# Altium schematic symbol library Custom.SchLib: 69 symbols
Pins are listed as number, name and electrical type; pins without a type are passive.

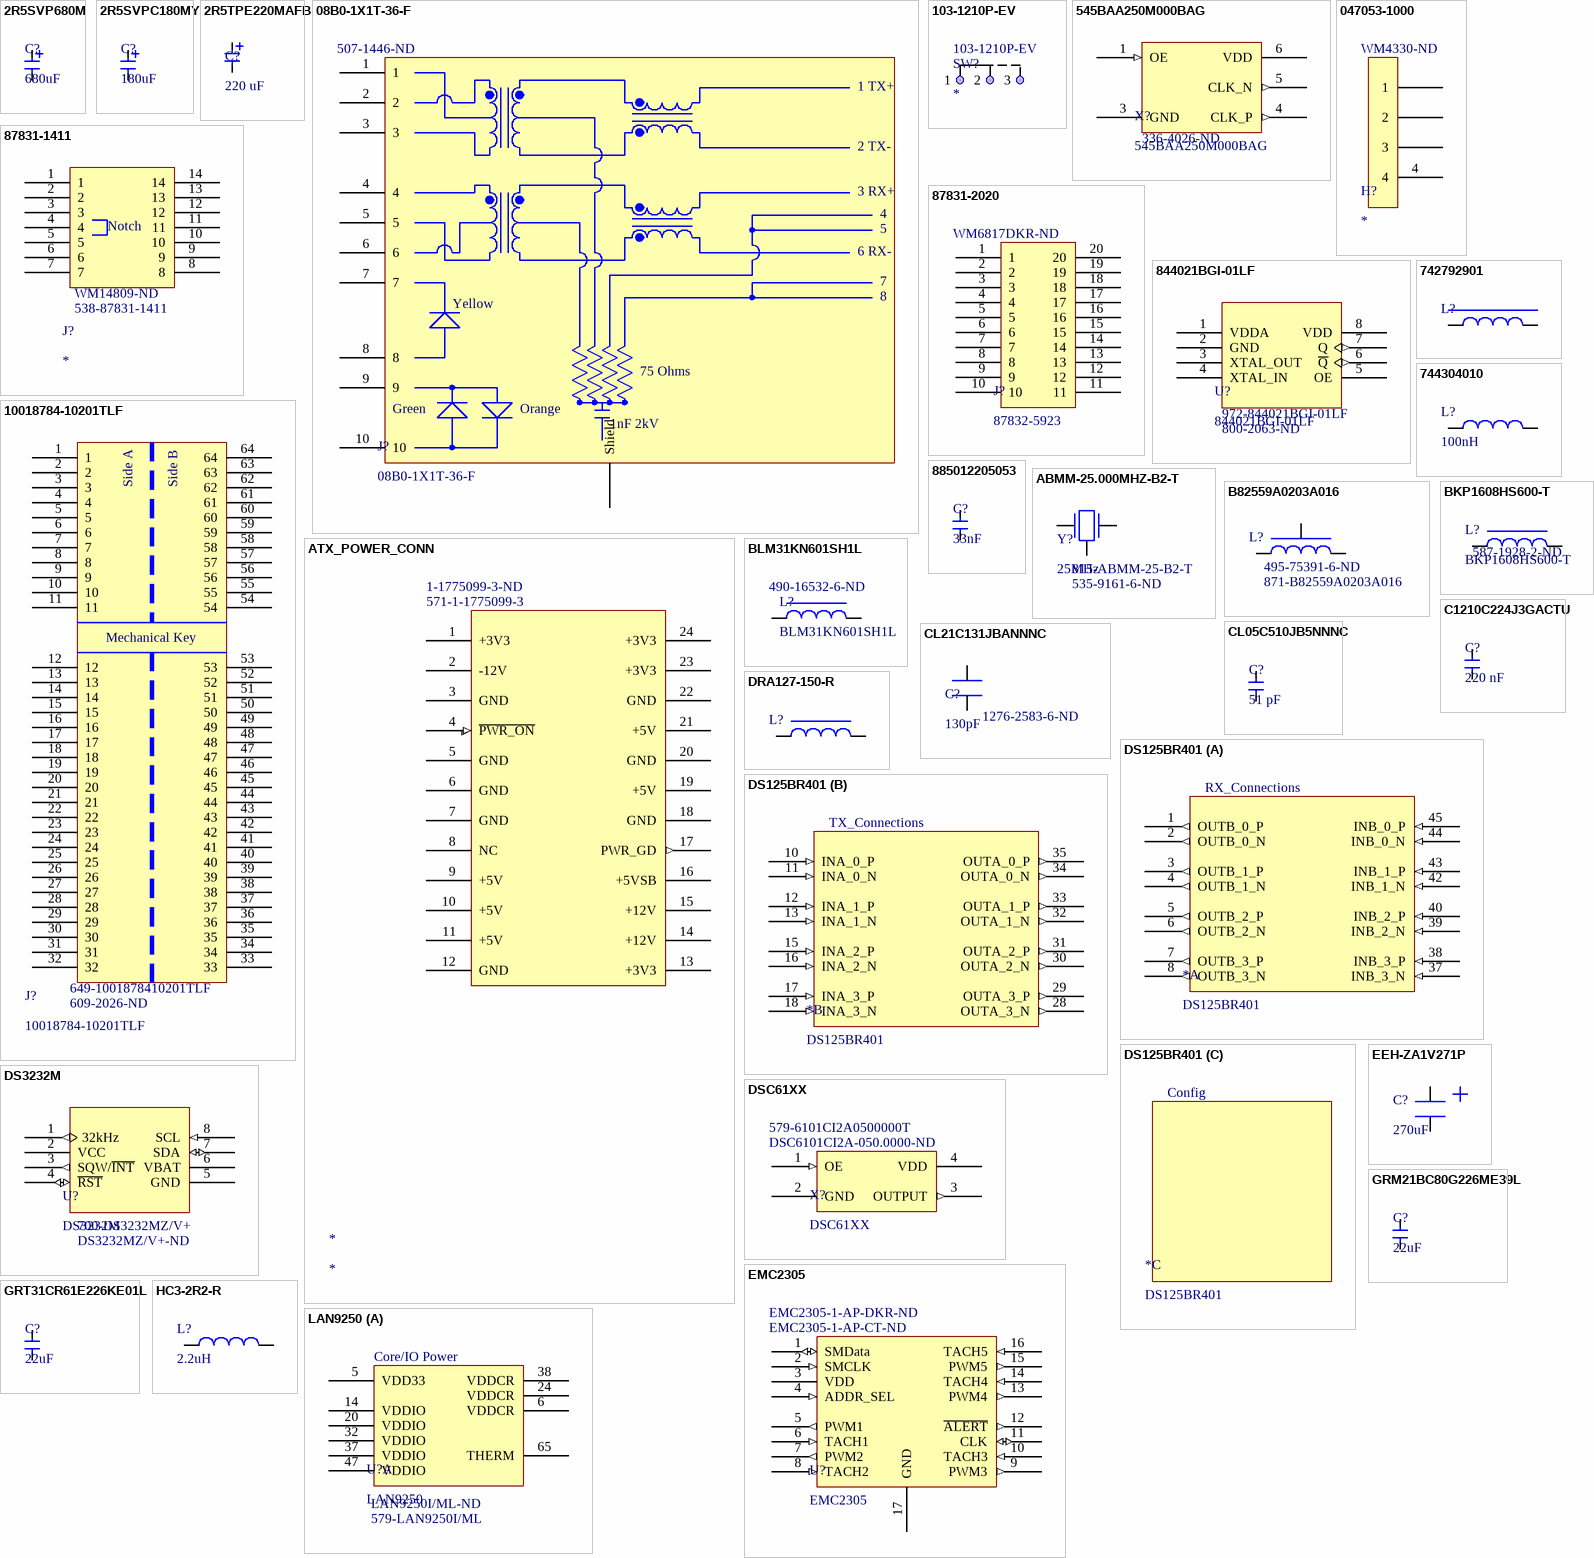
[diagram p0: symbols 2R5SVP680M to LAN9250]

## 2R5SVP680M
designator C?, comment 680uF
680uF capacitor alumanum polymer; Voltage Rating: 2.5V; ESR: 24 mOhms @ 100kHz; ESL: 251.7 pH; Frequency Correction factor for ripple current | 120 <= f < 1khz: 0.05; Frequency Correction factor for ripple current | 1khz<= f < 10khz: 0.3; Frequency Correction factor for ripple current | 10khz <= f < 100khz: 0.7; Frequency Correction factor for ripple current | 100khz<= f < 500khz: 1; Value: 680uF; Supplier 1: Digi-Key; Supplier 2: Mouser; Supplier Part Number 1: P16521DKR-ND; Supplier Part Number 2: 667-2R5SVP680M
footprint Panasonic_E12 (Panasonic E12 Aluminum Polimer Capacitor)
pins: 1, 2

## 2R5SVPC180MY
designator C?, comment 180uF
180uF capacitor alumanum polymer; Voltage Rating: 35V; ESR: 24 mOhms @ 100kHz; ESL: 251.7 pH; Frequency Correction factor for ripple current | 120 <= f < 1khz: 0.05; Frequency Correction factor for ripple current | 1khz<= f < 10khz: 0.3; Frequency Correction factor for ripple current | 10khz <= f < 100khz: 0.7; Frequency Correction factor for ripple current | 100khz<= f < 500khz: 1; Value: 180uF; Supplier 1: Mouser; Supplier 2: Digi-Key; Supplier Part Number 1: 667-2R5SVPC180MY; Supplier Part Number 2: P16525DKR-ND
footprint Panasonic B6 Capacitor (Panasonic B6 Aluminum Polymer Capacitor case)
pins: 1, 2

## 2R5TPE220MAFB
designator C?, comment 220 uF
220uF Tantalum Polymer Capacitor; Voltage Rating: 2.5BVDC; Tolerance: 20%; ESR: 15mOhms; Temperature Range: -55C to 105C; Supplier 1: Mouser; Supplier 2: Digi-Key; Supplier Part Number 1: 667-2R5TPE220MAFB; Supplier Part Number 2: P16200DKR-ND; Value: 220 uF
footprint Panasonic B2 Capacitor (Panasonic B2 Tantalum Polymer Capacitor)
pins: 1, 2

## 08B0-1X1T-36-F
designator J?  Supplier Part Number 1: 507-1446-ND
100Base-T Ethernet Jack w/ magnetics; Supplier 1: Digi-Key
footprint 08B0-1X1T-36-F (100Base-T RJ45 ethernet jack)
pins: 1, 2, 3, 4, 5, 6, 7, 8, 9, 10, 11 Shield, 12 hidden to 12, 13 hidden to 13, 14 hidden to 14
text: 1 TX+; 2 TX-; 3 RX+; 6 RX-; Yellow; 75 Ohms; Green; Orange; 1nF 2kV

## 103-1210P-EV
designator SW?  Supplier Part Number 1: 103-1210P-EV
Supplier 1: Mouser
footprint MountainSwitch SPST (SPST Slide Switch)
pins: 1, 2, 3

## 545BAA250M000BAG
designator X?  Supplier Part Number 1: 336-4026-ND
250 MHz Oscillator LVDS output 1.8V, 2.5V, 3.3V; Frequency: 250MHz; Supplier 1: Digi-Key
footprint Oscillator_3.2mm_5mm (Silicon Labs Oscillator)
pins: 1 OE (in) "Active High Enable", 2 hidden to 2, 3 GND (power), 4 CLK_P (out) "Differental Clock Output", 5 CLK_N (out) "Differential Clock Output", 6 VDD (power)

## 047053-1000
designator H?  Supplier Part Number 1: WM4330-ND
Supplier 1: Digi-Key
footprint 047053-1000 (4 pin header for PC fans)
pins: 1, 2, 3, 4

## 87831-1411
designator J?  Supplier Part Number 1: 538-87831-1411  Supplier Part Number 2: WM14809-ND
2x7 pin, (14 pins total) 2mm shrouded header; Manufacturer: Molex; Manufacturer Part Number: 87831-1411; Description: Headers & Wire Housings MGRID SHRDHDR VT W/TAIL.76AULF 14CKT; Number of Positions: 14; Current Rating: 2A; Voltage Rating: 125V; Mating Post Length: 3.6mm; Glow Wire Compliant: Non-compliant; Gender: Male; Connector Type: Male Pin; Supplier 1: Mouser; Stock 1: 3781; Pricing 1: 1=1.61, 10=1.44, 50=1.44, 100=1.25, 1000=0.892, 10000=0.773 (USD); Mount: Through Hole; Number of Pins: 14; Contact Plating: Nickel,Gold; Contact Material: Bronze; Housing Material: Nylon; Min Operating Temperature: -55°C; Max Operating Temperature: 105°C; Number of Rows: 2; Package Quantity: 3200; Packaging: Rail/Tube; Termination: Through Hole; Orientation: Vertical; Contact Gender: Male; Number of Circuits: 14; Pitch: 2mm; Row Spacing: 2mm; Termination Post Length: 3.5mm; Flammability Rating: UL94 V-0; ComponentLink1URL: http://www.mouser.com/ds/2/276/0878311411_PCB_HEADERS-263023.pdf; ComponentLink1Description: http://www.mouser.com/ds/2/276/0878311411_PCB_HEADERS-263023.pdf; Supplier 2: Digi-Key; Stock 2: 3228; Pricing 2: 1=1.6, 10=1.456, 100=1.248, 500=1.04002, 1000=0.89145, 5000=0.79042, 10000=0.77259 (USD); Colour: Black; Housing Colour: Black; Contact Mating Length: 0.141inch; ComponentLink2URL: https://datasheet.ciiva.com/6851/0878311411-pcb-headers-6851036.pdf; ComponentLink2Description: https://datasheet.ciiva.com/6851/0878311411-pcb-headers-6851036.pdf; ComponentLink3URL: https://datasheet.ciiva.com/30040/878311411-sd-30040476.pdf; ComponentLink3Description: https://datasheet.ciiva.com/30040/878311411-sd-30040476.pdf
footprint 2x7_2mm_header (2 by 7, 2mm pitch 14 pin header)
pins: 1, 2, 3, 4, 5, 6, 7, 8, 9, 10, 11, 12, 13, 14
text: Notch

## 87831-2020
designator J?, comment 87832-5923  Supplier Part Number 1: WM6817DKR-ND
10x2 2mm header (useful for USB3 header on motherboards); Supplier 1: Digi-Key
footprint 0878325923 (SMD 10x2 2mm pitch header)
pins: 1, 2, 3, 4, 5, 6, 7, 8, 9, 10, 11, 12, 13, 14, 15, 16, 17, 18, 19, 20

## 844021BGI-01LF
designator U?  Supplier Part Number 1: 972-844021BGI-01LF  Supplier Part Number 2: 800-2063-ND
LVDS Clock Buffer; Supplier 1: Mouser; Supplier 2: Digi-Key
footprint IDT TSSOP-8 (TSOP, 8-Leads, Body 3.00x4.40mm, Pitch 0.65mm, IPC Medium Density)
ibis ICS844021G-01 (Model Description)
pins: 1 VDDA, 2 GND (power), 3 XTAL_OUT, 4 XTAL_IN, 5 OE, 6 ~{Q} (out), 7 Q (out), 8 VDD (power)

## 10018784-10201TLF
designator J?  Supplier Part Number 1: 609-2026-ND  Supplier Part Number 2: 649-1001878410201TLF
PCIe 4x connector; Resistance: 30mΩ max (Initial) with 10mΩ max change; Voltage Rating: 300 VAC; Current Rating: 1.1A for 8 Specified Power Contacts and 8 nearest Ground Contacts; Insulation Resistance: 1 GOhms; Durability: 50 Mating Cycles; Supplier 1: Digi-Key; Supplier 2: Mouser
footprint 10018784-10201TLF (PCIe 4x)
pins: 1, 2, 3, 4, 5, 6, 7, 8, 9, 10, 11, 12, 13, 14, 15, 16, 17, 18, 19, 20, 21, 22, 23, 24, 25, 26, 27, 28, 29, 30, 31, 32, 33, 34, 35, 36, 37, 38, 39, 40, 41, 42, 43, 44, 45, 46, 47, 48, 49, 50, 51, 52, 53, 54, 55, 56, 57, 58, 59, 60, 61, 62, 63, 64
text: Side A; Side B; Mechanical Key

## 742792901
designator L?  (value not drawn)
Ferrite Bead; ESR: 9 mOhms; Inductance: 1.87802833µH; Impedance @ 100MHz: 1.18k Ohms; Supplier 1: Digi-Key; Supplier Part Number 1: 732-3645-6-ND; Supplier 2: Mouser; Supplier Part Number 2: 710-742792901
footprint FB1212 mm_WurthElekrionik (High Power Ferrite Bead, 2-Leads, Body 12.00x12.00mm, IPC Medium Density)
simulation model FB742792901 (SPICE Model for 742792901 Ferrite Bead)
pins: 1, 2

## 744304010
designator L?, comment 100nH
100nH power inductor I_RMS=24A, saturation @52A; DC Resistance: 170uOhms; Tolerance: 20%; Self Resonant Frequency: 105Mhz; Supplier 1: Mouser; Supplier Part Number 1: 710-744304010
footprint 744304010 (Molded Inductor, 2-Leads, Body 10.00x11.80mm, IPC Medium Density)
pins: 1, 2

## 885012205053
designator C?, comment 33nF
33nF capacitor 0402 package (in); Voltage Rating: 25V; ESR: 0.03148 Ohms; ESL: 251.7 pH; Supplier 1: Digi-Key; Supplier Part Number 1: 732-7548-6-ND; Value: 33nF
footprint C0402IN_C1005MM
simulation model WCAP_CSGP_885012205053
pins: 1, 2

## ABMM-25.000MHZ-B2-T
designator Y?, comment 25MHz  Supplier Part Number 1: 535-9161-6-ND  Supplier Part Number 2: 815-ABMM-25-B2-T
25MHz crystal; Supplier 1: Digi-Key; Supplier 2: Mouser
footprint ABMM Crystal 7x5x1.3mm
pins: 1, 2, 4 3 (power), 3 2

## ATX_POWER_CONN
designator *  Supplier Part Number 1: 571-1-1775099-3  Supplier Part Number 2: 1-1775099-3-ND
Supplier 1: Mouser; Supplier 2: Digi-Key
footprint TE_1-1775099-3
pins: 1 +3V3 (power), 2 -12V (power), 3 GND (power), 4 ~{PWR_ON} (in) "Turn power supply outputs on", 5 GND (power), 6 GND (power), 7 GND (power), 8 NC "No Connect", 9 +5V (power), 10 +5V (power), 11 +5V (power), 12 GND (power), 13 +3V3 (power), 14 +12V (power), 15 +12V (power), 16 +5VSB (power) "Always on; used for regulation and turning on everything else", 17 PWR_GD (out) "5V TTL output to determine if power supply voltages are ok", 18 GND (power), 19 +5V (power), 20 GND (power), 21 +5V (power), 22 GND (power), 23 +3V3 (power), 24 +3V3 (power)

## B82559A0203A016
designator L?, comment Supplier Part Number 1: 871-B82559A0203A016  Supplier Part Number 2: 495-75391-6-ND  (hidden comment: 20uH)
ESR: 13.25mOhms; Value: 20uH; Supplier 1: Mouser; Supplier 2: Digi-Key
footprint B82559_A016 (Shielded inductor)
pins: 1 21, 2 22, 3

## BKP1608HS600-T
designator L?  Supplier Part Number 1: 587-1928-2-ND
Ferrite Bead; 60Ohms @ 100Mhz; 2.5A rated; R =40mOhm; Inductance: 95.4929659n; ESR: 40 mOhms; Supplier 1: Digi-Key; Impedance @ 100MHz: 60 Ohms
footprint L0603_L1608
simulation model BKP1608_HS600-T (BKP1608_HS600-T     SPICE MODEL  ( General Type ))
pins: 1, 2

## BLM31KN601SH1L
designator L?  Supplier Part Number 1: 490-16532-6-ND
Ferrite Bead; 600Ohms @ 100Mhz; 2.9A rated; Supplier 1: Digi-Key
footprint C1206IN_C3216MM
simulation model BLM31KN601SH1L (SPICE Model for BLM31KN601SH1L Ferrite Bead)
pins: 1 21, 2 22

## C1210C224J3GACTU
designator C?, comment 220 nF
220 nF Capacitor C0G, NP0 1210 in (3225 metric) 25V; Dielectric: C0G/NP0; Tolerance: 5%; Value: 220 nF; Voltage Rating: 25V; Temperature Range: -55C to 125C; Case Code in: 1210; Case Code mm: 3225; Supplier 1: Mouser; Supplier 2: Digi-Key; Supplier Part Number 1: 80-C1210C224J3G; Supplier Part Number 2: 399-11188-6-ND
simulation model C1210C224J3GACTU (Model Description)
footprint C1206IN_C3216MM
pins: 1 22, 2 21

## CL05C510JB5NNNC
designator C?, comment 51 pF
51 pF capacitor C0G 0402in 5% 50V; Case Code in: 0402; Case Code mm: 1005; Temperature characteristics: C0G; Value: 51 pF; Tolerance: 5%; Rated Voltage: 50V; Supplier 1: Digi-Key; Supplier Part Number 1: 1276-1704-6-ND
footprint C0402IN_C1005MM
pins: 1 22, 2 21

## CL21C131JBANNNC
designator C?, comment 130pF  Supplier Part Number 1: 1276-2583-6-ND
130pF capacitor 50V rated; Supplier 1: Digi-Key
footprint C0805in
pins: 1, 2

## DRA127-150-R
designator L?, comment 14.9 uH  (value not drawn)
Inductor; High power density, high efficiency, shielded drum core power inductors; ESR max: 32 mOhms; ESR typical: 27 mOhms; K-Factor: 19.4; Irms: 4.83; Isat @25C 30% rolloff: 9.03; Isat @125C 40% rolloff: 7.23; Tolerance: 20%; Value: 14.9 uH; Supplier 1: Mouser; Supplier Part Number 1: 704-DRA127-150-R
footprint DRA127 (DRA127 series inductors by coiltronics/eaton)
pins: 1, 2 1

## DS125BR401
designator *
12.5 Gbps Retimer 4x tx, 4x rx
part A pins: 1 OUTB_0_P (out), 2 OUTB_0_N (out), 3 OUTB_1_P (out), 4 OUTB_1_N (out), 5 OUTB_2_P (out), 6 OUTB_2_N (out), 7 OUTB_3_P (out), 8 OUTB_3_N (out), 37 INB_3_N (in), 38 INB_3_P (in), 39 INB_2_N (in), 40 INB_2_P (in), 42 INB_1_N (in), 43 INB_1_P (in), 44 INB_0_N (in), 45 INB_0_P (in)
part B pins: 10 INA_0_P (in), 11 INA_0_N (in), 12 INA_1_P (in), 13 INA_1_N (in), 15 INA_2_P (in), 16 INA_2_N (in), 17 INA_3_P (in), 18 INA_3_N (in), 28 OUTA_3_N (out), 29 OUTA_3_P (out), 30 OUTA_2_N (out), 31 OUTA_2_P (out), 32 OUTA_1_N (out), 33 OUTA_1_P (out), 34 OUTA_0_N (out), 35 OUTA_0_P (out)
part A text: RX_Connections
part B text: TX_Connections
part C text: Config

## DS3232M
designator U?  Supplier Part Number 1: DS3232MZ/V+-ND  Supplier Part Number 2: 700-DS3232MZ/V+
RTC 5ppm I2C; Supplier 1: Digi-Key; Supplier 2: Mouser
footprint Maxim S8MK+1 (SOIC, 8-Leads, Body 4.90x3.90mm, Pitch 1.27mm, IPC Medium Density)
ibis DS3231M (Model Description)
pins: 1 32kHz (out) "32kHz Clk input", 2 VCC (power), 3 SQW/~{INT} (out) "Interrupt/Square Wave Output", 4 ~{RST} (io) "Active Low Reset; Can also generate reset signal", 5 GND (power), 6 VBAT (power), 7 SDA (io) "I2C Serial Data", 8 SCL (in) "I2C Clock"

## DSC61XX
designator X?  Supplier Part Number 1: DSC6101CI2A-050.0000-ND  Supplier Part Number 2: 579-6101CI2A0500000T
Oscillator; Supplier 1: Digi-Key; Supplier 2: Mouser
footprint CDFN3225-4LD-PL-1 (DFN, 4-Leads, Body 2.50x3.20mm, Pitch 2.10mm, IPC Medium Density)
pins: 1 OE (in), 2 GND (power), 3 OUTPUT (out), 4 VDD (power)

## EEH-ZA1V271P
designator C?, comment 270uF
270 uF Capacitor; Value: 270uF; Supplier 1: Digi-Key; Supplier 2: Mouser; Supplier Part Number 1: P15453DKR-ND; Supplier Part Number 2: 667-EEH-ZA1V271P
footprint 10x10.2 Aluminum Electrolytic (Aluminum Electrolytic Capacitor, Body 10.25x10.25x10.80mm, IPC Medium Density)
pins: 1, 2

## EMC2305
designator U?  Supplier Part Number 1: EMC2305-1-AP-CT-ND  Supplier Part Number 2: EMC2305-1-AP-DKR-ND
EMC2305 Fan Controller by Microchip; Supplier 1: Digi-Key; Supplier 2: Digi-Key
footprint QFN-16 (EMC2305 Package: QFN, 16-Leads, Body 4.00x4.00mm, Pitch 0.65mm, Thermal Pad 2.10x2.10mm, IPC High Density)
pins: 1 SMData (io) "I2C data pin; needs pull up (5V tolerant)", 2 SMCLK (in) "I2C Clock; needs pullup (5V tolerant)", 3 VDD (power), 4 ADDR_SEL (in) "Address Select; requires pullup", 5 PWM1 (out), 6 TACH1 (in) "Tachometer input from fan; requires pullup resistor(5V tolerant)", 7 PWM2 (out), 8 TACH2 (in) "Tachometer input from fan; requires pullup resistor(5V tolerant)", 9 PWM3 (out), 10 TACH3 (in) "Tachometer input from fan; requires pullup resistor(5V tolerant)", 11 CLK (io) "Clock input for tachometer measurement, or push-pull output for synchronization with other controllers", 12 ~{ALERT} (out) "Active Low Interrupt", 13 PWM4 (out), 14 TACH4 (in) "Tachometer input from fan; requires pullup resistor(5V tolerant)", 15 PWM5 (out), 16 TACH5 (in) "Tachometer input from fan; requires pullup resistor(5V tolerant)", 17 GND (power)

## GRM21BC80G226ME39L
designator C?, comment 22uF
22uF capacitor; Supplier 1: Mouser; Supplier 2: Digi-Key; Supplier Part Number 1: 81-GRM21BC80G226ME9L; Supplier Part Number 2: 490-6464-6-ND
footprint Chip2PinSM127P600-8N
pins: 1 22, 2 21

## GRT31CR61E226KE01L
designator C?, comment 22uF
22uF Capacitor 1206 package (in); Supplier 1: Digi-Key; Value: 22uF; Supplier Part Number 1: 490-12450-6-ND; Supplier 2: Mouser; Supplier Part Number 2: 81-GRT31CR61E226KE1L
footprint C1206IN_C3216MM
simulation model GRT31CR61E226KE01 (----------------------------------------------------------------------)
pins: 1 22, 2 21

## HC3-2R2-R
designator L?, comment 2.2uH
2.2uH inductor rated at 60A; Supplier 1: Mouser; Supplier 2: Digi-Key; Supplier Part Number 1: 704-HC3-2R2-R; Supplier Part Number 2: 513-1753-ND
footprint HC3-XXX Package (Huge ass inductor package)
pins: 1, 2

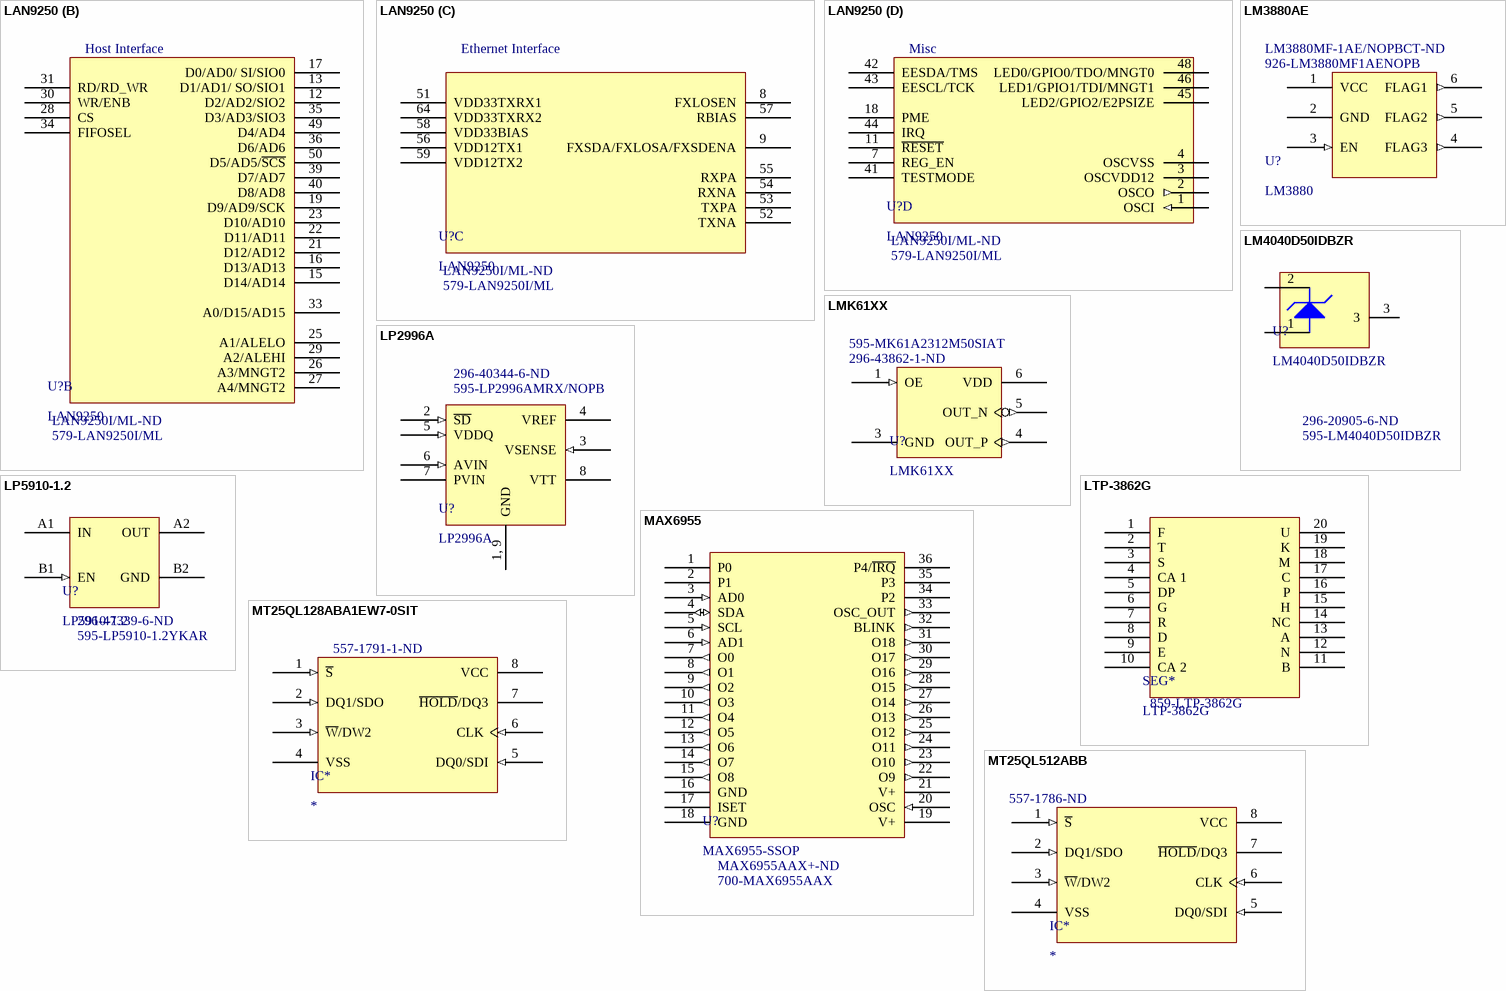
[diagram p1: symbols LAN9250 to MT25QL512ABB]

## LAN9250
designator U?  Supplier Part Number 1: 579-LAN9250I/ML  Supplier Part Number 2: LAN9250I/ML-ND
10/100 Mb/s Ethernet PHY & MAC; Supplier 1: Mouser; Supplier 2: Digi-Key
footprint QFN-64 Microchip (Microchip QFN-64)
part A pins: 5 VDD33 (power), 6 VDDCR, 10 RESERVED hidden to 10,60,61,62,63, 14 VDDIO, 20 VDDIO, 24 VDDCR, 32 VDDIO, 37 VDDIO, 38 VDDCR, 47 VDDIO, 65 THERM
part B pins: 12 D2/AD2/SIO2, 13 D1/AD1/ SO/SIO1, 15 D14/AD14, 16 D13/AD13, 17 D0/AD0/ SI/SIO0, 19 D9/AD9/SCK, 21 D12/AD12, 22 D11/AD11, 23 D10/AD10, 25 A1/ALELO, 26 A3/MNGT2, 27 A4/MNGT2, 28 CS, 29 A2/ALEHI, 30 WR/ENB, 31 RD/RD_WR, 33 A0/D15/AD15, 34 FIFOSEL, 35 D3/AD3/SIO3, 36 D6/AD6, 39 D7/AD7, 40 D8/AD8, 49 D4/AD4, 50 D5/AD5/~{SCS}
part C pins: 8 FXLOSEN, 9 FXSDA/FXLOSA/FXSDENA, 51 VDD33TXRX1, 52 TXNA, 53 TXPA, 54 RXNA, 55 RXPA, 56 VDD12TX1, 57 RBIAS, 58 VDD33BIAS, 59 VDD12TX2, 64 VDD33TXRX2
part D pins: 1 OSCI (in) "Oscillator Input", 2 OSCO (out) "Oscillator Output", 3 OSCVDD12 (power), 4 OSCVSS (power), 7 REG_EN, 11 ~{RESET}, 18 PME, 41 TESTMODE, 42 EESDA/TMS, 43 EESCL/TCK, 44 IRQ, 45 LED2/GPIO2/E2PSIZE, 46 LED1/GPIO1/TDI/MNGT1, 48 LED0/GPIO0/TDO/MNGT0
part A text: Core/IO Power
part B text: Host Interface
part C text: Ethernet Interface
part D text: Misc

## LM3880AE
designator U?, comment LM3880  Supplier Part Number 1: 926-LM3880MF1AENOPB  Supplier Part Number 2: LM3880MF-1AE/NOPBCT-ND
Power Sequencer; Supplier 1: Mouser; Supplier 2: Digi-Key
footprint TI-DBV_SOT23-6 (SOT23, 6-Leads, Body 2.90x2.80mm, Pitch 0.95mm, IPC High Density)
simulation model LM3880_TRANS ($ENCRYPTED_LIB)
pins: 1 VCC (power), 2 GND (power), 3 EN (in) "Active High Enable (above 1.25V)", 4 FLAG3 (out), 5 FLAG2 (out), 6 FLAG1 (out) "Output Flag for enabling power sequencing"

## LM4040D50IDBZR
designator U?  Supplier Part Number 1: 595-LM4040D50IDBZR  Supplier Part Number 2: 296-20905-6-ND
5V 1% Shunt Precision Reference; Supplier 1: Mouser; Supplier 2: Digi-Key
footprint DBZ0003A (Texas Instruments SOT-23 1.12mm max height 3 pin)
pins: 1, 2, 3

## LMK61XX
designator U?  Supplier Part Number 1: 296-43862-1-ND  Supplier Part Number 2: 595-MK61A2312M50SIAT
Clock generator differntial; Supplier 1: Digi-Key; Supplier 2: Mouser
footprint SIA0006A | QFM 6 - 1.15mm max height (QFN, 6-Leads, Body 5.00x7.00mm, Pitch 2.54mm, IPC Medium Density)
pins: 1 OE (in), 2 NC hidden to 2, 3 GND (power), 4 OUT_P (out), 5 OUT_N (out) "Differntal Clock output", 6 VDD (power)

## LP2996A
designator U?  Supplier Part Number 1: 595-LP2996AMRX/NOPB  Supplier Part Number 2: 296-40344-6-ND
Linear regilator for JDEC SSTL-2 specification to terminate DDR-SDRAM. Supoprts DDR2, DDR3, DDR3L VTT bus trermination; Supplier 1: Mouser; Supplier 2: Digi-Key
footprint DDA0008A (Texas Instruments PowerPad SOIC-8 1.7mm max height)
simulation model LP2996A_TRANS (* PSpice Model Editor - Version 16.2.0)
simulation model LP2996A_TRANS_ENCRYPTED ($ENCRYPTED_LIB)
pins: 1, 9 GND (power), 2 ~{SD} (in) "Shutdown", 3 VSENSE (in) "Feedback  pin for regulating  V TT", 4 VREF (power) "Buffered  internal  reference  voltage  of VDDQ /2", 5 VDDQ (in) "Input  for internal  reference  equal  to V  DDQ  /2", 6 AVIN (in) "Analog  input  pin", 7 PVIN (power) "Power input pin", 8 VTT (power) "Output  voltage  for connection  to termination  resistors"

## LP5910-1.2
designator U?  Supplier Part Number 1: 595-LP5910-1.2YKAR  Supplier Part Number 2: 296-47339-6-ND
ow-noise  LDO  that can supply  up to  300  mA of output  current.  Designed  to meet  the  requirements  of RF and analog  circuits,  this device  provides  low  noise,  high  PSRR,  low  quiescent  current,  and superior  line transient  and load  transient  response.  Using  new  innovative  design  techniques  the LP5910  offers  class-leading  noise  performance  without  a noise  bypass  capacitor  and with the option  for remote  output  capacitor  placement; Supplier 1: Mouser; Supplier 2: Digi-Key
footprint YKA0004-C01 (Texas Instruments DSBGA-4 0.44mm max height)
simulation model LP5910_1P2_TRANS ($)
simulation model LP5910_1P2_TRANS_ENCRYPTED ($ENCRYPTED_LIB)
pins: A1 IN (power) "Voltage  supply  input.  A 1-  μ  F capacitor  must  be connected  at this input.", A2 OUT (power) "Voltage  output.  A 1-μF low-ESR  capacitor  must  be connected  from  this pin to the  GND  pin. Connect  this output  to the load circuit.", B1 EN (in) "Enable  input;  disables  the regulator  when  logic  low. Enables  the regulator  when  logic  high.  An internal  1-M  Ω  pull down  resistor  connects  this input  to ground.", B2 GND (power)

## LTP-3862G
designator SEG*  Supplier Part Number 1: 859-LTP-3862G
16 Segment Display 2x; Continuous Forward Current per segment: 25mA; Reverse Voltage per segment: 5V; Forward Voltage per segment: 2.1V typ | 2.6V max; Temp Range: -35C to 85C; Supplier 1: Mouser
footprint LITEON-16SEG
pins: 1 F, 2 T, 3 S, 4 CA 1 "Common Anode 1 (pos)", 5 DP, 6 G, 7 R, 8 D, 9 E, 10 CA 2 "Common Anode 2 (pos)", 11 B, 12 N, 13 A, 14 NC, 15 H, 16 P, 17 C, 18 M, 19 K, 20 U

## MAX6955
designator U?, comment MAX6955-SSOP  Supplier Part Number 1: 700-MAX6955AAX  Supplier Part Number 2: MAX6955AAX+-ND
2-Wire Interfaced, 2.7V to 5.5V  LED Display Driver with I/O  Expander and Key Scan; Supplier 1: Mouser; Supplier 2: Digi-Key
footprint Maxim A36-2 (Maxim SSOP 36pin 0.8mm pitch)
pins: 1 P0 "GPIO", 2 P1, 3 AD0 (in) "Slave address select", 4 SDA (io), 5 SCL (in), 6 AD1 (in) "Slave address select", 7 O0 (out) "LED Sink", 8 O1 (out), 9 O2 (out), 10 O3 (out), 11 O4 (out), 12 O5 (out), 13 O6 (out), 14 O7 (out), 15 O8 (out), 16 GND (power), 17 ISET "Resistor to ground for setting current", 18 GND (power), 19 V+ (power), 20 OSC (in) "Multiplexing Clock Input", 21 V+ (power), 22 O9 (out), 23 O10 (out), 24 O11 (out), 25 O12 (out), 26 O13 (out), 27 O14 (out), 28 O15 (out), 29 O16 (out), 30 O17 (out), 31 O18 (out), 32 BLINK (out) "Blink Clock Output", 33 OSC_OUT (out) "Clock output for blink synchronization between multiple devices", 34 P2 "GPIO", 35 P3 "GPIO", 36 P4/~{IRQ} "GPIO/IRQ when used as key scanning"

## MT25QL128ABA1EW7-0SIT
designator IC*  Supplier Part Number 1: 557-1791-1-ND
Micron SPI NOR Flash 128Mb; Supplier 1: Digi-Key
footprint MICRON-W9 (Micron W9 PDFN-8 Package)
footprint MICRON-W7 (Micron W7 PDFN-8 Package)
pins: 1 ~{S} (in) "Chip Select", 2 DQ1/SDO (in) "Chip Select", 3 ~{W}/DW2 (in) "Chip Select", 4 VSS (power), 5 DQ0/SDI (in) "Chip Select", 6 CLK (in), 7 ~{HOLD}/DQ3, 8 VCC (power)

## MT25QL512ABB
designator IC*  Supplier Part Number 1: 557-1786-ND
Micron SPI NOR Flash 512Mb; Supplier 1: Digi-Key
footprint MICRON-W9 (Micron W9 PDFN-8 Package)
ibis MT25QL512ABBxxW9 (Model Description)
pins: 1 ~{S} (in) "Chip Select", 2 DQ1/SDO (in) "Chip Select", 3 ~{W}/DW2 (in) "Chip Select", 4 VSS (power), 5 DQ0/SDI (in) "Chip Select", 6 CLK (in), 7 ~{HOLD}/DQ3, 8 VCC (power), ?1 DNU hidden to DNU, G18 NC hidden to NC

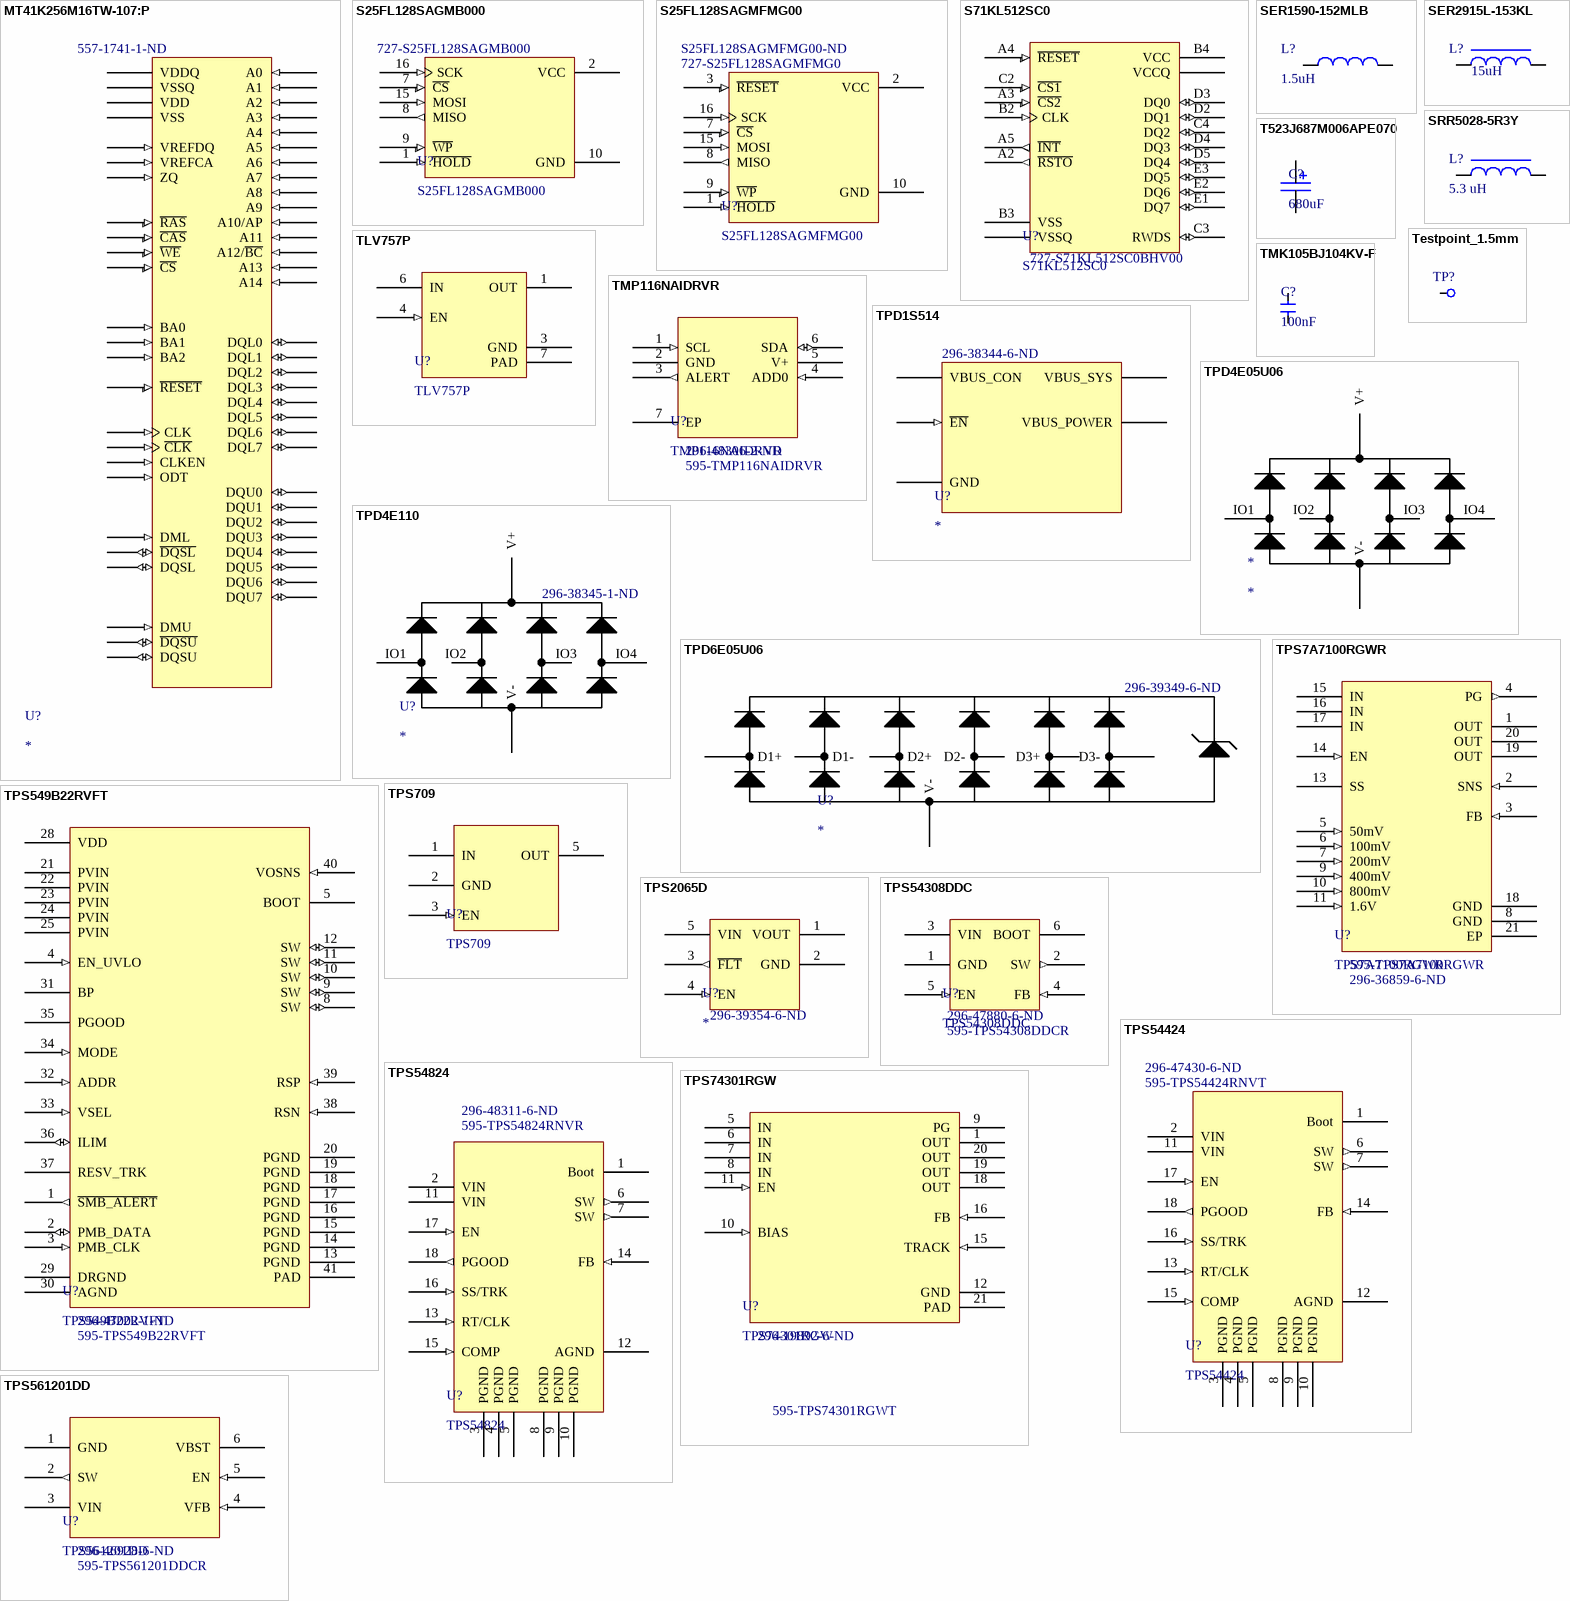
[diagram p2: symbols MT41K256M16TW-107:P to TPS561201DD]

## MT41K256M16TW-107:P
designator U?  Supplier Part Number 1: 557-1741-1-ND
4Gb DDR3L SDRAM; Data Bus Width: 16; Supplier 1: Digi-Key
footprint BGA96C80P9X16_800X1400X120 (BGA, 96-Leads, Body 8.00x14.00mmx1.20mm, Pitch 0.80mm); pin to pad NC>J1+J9+L1+L9+M7 p2>P2
signal-integrity model 1066_34_no_odt (Model Description)
ibis MT41K256M16TW (1066Mbps_32ohm_no_odt)
pins: A1 VDDQ (power), A2 DQU5 (io), A3 DQU7 (io), A7 DQU4 (io), A8 VDDQ (power), A9 VSS (power), B1 VSSQ (power), B2 VDD (power), B3 VSS (power), B7 ~{DQSU} (io) "Data Strobe Upper Differential Negative", B8 DQU6 (io), B9 VSSQ (power), C1 VDDQ (power), C2 DQU3 (io), C3 DQU1 (io), C7 DQSU (io) "Data Strobe Upper Differential Positive", C8 DQU2 (io), C9 VDDQ (power), D1 VSSQ (power), D2 VDDQ (power), D3 DMU (in) "Data Mask Upper Byte", D7 DQU0 (io), D8 VSSQ (power), D9 VDD (power), E1 VSS (power), E2 VSSQ (power), E3 DQL0 (io), E7 DML (in) "Data Mask Lower Byte", E8 VSSQ (power), E9 VDDQ (power), F1 VDDQ (power), F2 DQL2 (io), F3 DQSL (io) "Data Strobe Lower Differential Positive", F7 DQL1 (io), F8 DQL3 (io), F9 VSSQ (power), G1 VSSQ (power), G2 DQL6 (io), G3 ~{DQSL} (io) "Data Strobe Lower Differential Negative", G7 VDD (power), G8 VSS (power), G9 VSSQ (power), H1 VREFDQ (in) "Reference Voltage for DQ", H2 ~{CS} (in) "Write Enable", H3 DQL4 (io), H7 DQL7 (io), H8 DQL5 (io), H9 VDDQ (power), J2 VSS (power), J3 ~{RAS} (in) "Row Address Strobe", J7 CLK (in) "Clock Differential Positive", J8 VSS (power), K1 ODT (in) "On Die Termination", K2 VDD (power), K3 ~{CAS} (in) "Column Address Strobe", K7 ~{CLK} (in) "Clock Differential Negative", K8 VDD (power), K9 CLKEN (in) "Clock Enable", L3 ~{WE} (in) "Write Enable", L7 A10/AP (in) "Address 10 / Auto Precharge", L8 ZQ (in) "Reference Pin for ZQ Calibration", M1 VSS (power), M2 BA0 (in) "Bank Address Input", M3 BA2 (in) "Bank Address Input", M8 VREFCA (in) "Reference Voltage for CA", M9 VSS (power), N1 VDD (power), N2 A3 (in), N3 A0 (in), N7 A12/~{BC} (in) "Address 12 / Burst Chop", N8 BA1 (in) "Bank Address Input", N9 VDD (power), NC hidden, P1 VSS (power), P2 A5 (in), P3 A2 (in), P7 A1 (in), P8 A4 (in), P9 VSS (power), R1 VDD (power), R2 A7 (in), R3 A9 (in), R7 A11 (in), R8 A6 (in), R9 VDD (power), T1 VSS (power), T2 ~{RESET} (in) "Asynchronous Reset", T3 A13 (in), T7 A14 (in), T8 A8 (in), T9 VSS (power)

## S25FL128SAGMB000
designator U?  Supplier Part Number 1: 727-S25FL128SAGMB000
Cypress SPI Flash 128Mbit 133MHz; Supplier 1: Mouser
footprint S03016 (Cypress SOIC, 16-Leads, Body 10.30x7.50mm, Pitch 1.27mm, IPC High Density)
ibis S25FL128S_A (Model Description)
pins: 1 ~{HOLD} (in) "Pauses Serial transfer (can leave unconnected if not used)", 2 VCC, 3, 4, 5, 6, 11, 12, 13, 14 NC hidden to NC, 7 ~{CS} (in) "Active Low Chip Select", 8 MISO (out) "SPI Flash Data Out", 9 ~{WP} (in) "Write Protect (If not used, leave unconnected)", 10 GND, 15 MOSI (in) "SPI Flash Data in", 16 SCK (in) "SPI Clock"

## S25FL128SAGMFMG00
designator U?  Supplier Part Number 1: 727-S25FL128SAGMFMG0  Supplier Part Number 2: S25FL128SAGMFMG00-ND
Cypress SPI Flash 128Mbit 133MHz; Supplier 1: Mouser; Supplier 2: Digi-Key
footprint S03016 (Cypress SOIC, 16-Leads, Body 10.30x7.50mm, Pitch 1.27mm, IPC High Density)
pins: 1 ~{HOLD} (in) "Pauses Serial transfer (can leave unconnected if not used)", 2 VCC, 3 ~{RESET} (in) "Active Low Reset", 4, 5, 6, 11, 12, 13, 14 NC hidden to NC, 7 ~{CS} (in) "Active Low Chip Select", 8 MISO (out) "SPI Flash Data Out", 9 ~{WP} (in) "Write Protect (If not used, leave unconnected)", 10 GND, 15 MOSI (in) "SPI Flash Data in", 16 SCK (in) "SPI Clock"

## S71KL512SC0
designator U?  Supplier Part Number 1: 727-S71KL512SC0BHV00
Cypress HyperFlash and HyperRam; Supplier 1: Mouser
footprint ELA024 — FBGA 24-Ball 6 x 8 x 1 mm (Cypress: BGA, 24-Leads, Body 6.00x8.00mmx1.00mm, Pitch 1.00mm)
ibis S71KL512SC0 (Model Description)
pins: ?1 NC hidden, A2 ~{RSTO} (out) "Open Drain POR reset signal", A3 ~{CS2} (in) "Chip select for HyperRam", A4 ~{RESET} (in) "Active Low Reset (OPTIONAL)", A5 ~{INT} (out) "Optional Open Drain Interrupt Signal", B2 CLK (in) "Input Single ended Clock (3V only)", B3 VSS (power) "Core GND", B4 VCC (power) "Core Power", C1 VSSQ (power) "IO GND", C2 ~{CS1} (in) "Chip Select for HyperFlash memory", C3 RWDS (io) "Read Write Data Strobe", C4 DQ2 (io) "Data IO", D1 VCCQ (power) "IO Power", D2 DQ1 (io) "Data IO", D3 DQ0 (io) "Data IO", D4 DQ3 (io) "Data IO", D5 DQ4 (io) "Data IO", E1 DQ7 (io) "Data IO", E2 DQ6 (io) "Data IO", E3 DQ5 (io) "Data IO", E4 VCCQ (power) "IO Power", E5 VSSQ (power) "IO GND"

## SER1590-152MLB
designator L?, comment 1.5uH
Power Inductor; Max DC Current: 22A; Tolerandce: 20%; Max DC Resistance: 1.5 mOhms; Temp Range: -40 C to 85C; Self Resonant Frequency: 75Mhz; Value: 1.5uH; Supplier 1: Mouser; Supplier Part Number 1: 994-SER1590-152MLB
footprint SER1590 (Another giant inductor by Coilcraft)
pins: 1, 2, 3 hidden to 3

## SER2915L-153KL
designator L?, comment 15uH
15uH inductor 11A rated 10% 1.65mOhms DC resistance; ESR: 1.65mOhms; Supplier 1: Mouser; Supplier Part Number 1: 994-SER2915L-153KL; Value: 15uH
footprint SER29XX Series Inductor (SER29XX Series Inductor package by Coilcraft)
pins: 1, 2, 3 hidden to 3

## SRR5028-5R3Y
designator L?, comment 5.3 uH
5.3uH shielded power inductor 30%; Qref: 7; Test Frequency: 7.96 MHz; Self Resonant Frequency: 45 MHz; Irms: 2.30 A; Isat: 1.90 A; ESR: 40 mOhms max; Tolerance: 30%; Value: 5.3 uH; Supplier 1: Mouser; Supplier 2: Digi-Key; Supplier Part Number 1: 652-SRR5028-5R3Y; Supplier Part Number 2: SRR5028-5R3YDKR-ND
footprint SRR5028 (SRR5028 series inductor)
pins: 1, 2

## T523J687M006APE070
designator C?, comment 680uF
680uF Tantalum low profile capacitor; ESR: 70mOhms; ComponentLink1Description: KEMET Website; ComponentLink1URL: https://search.kemet.com/component-edge/#/distributor?search=T523J687M006APE070&pn=T523J687M006APE070&id=357; ComponentLink2Description: Datasheet; ComponentLink2URL: https://content.kemet.com/datasheets/KEM_T2076_T52X-530.pdf; Value: 680uF; Supplier 1: Mouser; Supplier Part Number 1: 80-T523J687M6PE70
footprint T523J - KEMET (KEMET high density T523J tantalum capacitor)
pins: 1 "Positive pin", 2 "Negative pin"

## Testpoint_1.5mm
designator TP?, comment 1.5mm  (value not drawn)
Test point
footprint Testpoint_1.5mm
pins: 1

## TLV757P
designator U?
low-dropout  regulator  (LDO)  is an ultra-  small,  low quiescent  current  LDO  that sources  1 A  with  good  line and load  transient  performance; Input Voltage Range: 1.45V - 5.5V; Supplier 1: Mouser; Supplier Part Number 1: 595-TLV75733PDRVR
footprint DRV0006A_WSON-0.8mm (Texas Instruments WSON 0.8mm max height)
pins: 1 OUT (power) "Regulated  output  voltage  pin. A capacitor  with a value  of 1 μF or larger  is  required  from  this pin to ground", 2 hidden to 2, 3 GND (power), 4 EN (in) "Enable  pin. Drive  EN greater  than  V  HI  to turn on the regulator.  Drive  EN less  than  V  LO  to place  the LDO  into shutdown  mode.", 5 hidden to 5, 6 IN (power) "nput  pin. A capacitor  with a value  of 1 μF or larger  is required  from  this pin to  ground", 7 PAD

## TMK105BJ104KV-F
designator C?, comment 100nF
100nF capacitor 0402 package (in); Voltage Rating: 25V; ESR: 0.05Ohms; ESL: 452.134533 pH; Value: 100nF; Supplier 1: Digi-Key; Supplier Part Number 1: 587-1456-6-ND
simulation model TMK105BJ104_V-F (TMK105BJ104_V-F     SPICE MODEL  ( General Type ))
footprint C0402IN_C1005MM
pins: 1, 2

## TMP116NAIDRVR
designator U?  Supplier Part Number 1: 595-TMP116NAIDRVR  Supplier Part Number 2: 296-48306-2-ND
High Accuracy Temperature Sensor, SMBus/I2C; Supplier 1: Mouser; Supplier 2: Digi-Key
footprint DRV0006A_WSON-0.8mm (Texas Instruments WSON 0.8mm max height)
pins: 1 SCL (in), 2 GND (power), 3 ALERT (out) "Open Drain over temperature output", 4 ADD0 (in) "Address Select", 5 V+ (power), 6 SDA (io), 7 EP "Exposed Pad"

## TPD1S514
designator U?  Supplier Part Number 1: 296-38344-6-ND
USB 3.0 Protection Circuit (Only VBUS); Supplier 1: Digi-Key
footprint DSBGA-12 (BGA, 12-Leads, Body 1.99x1.29mmx0.63mm, Pitch 0.40mm)
pins: A1 ~{EN} (in), A2, A3, B2 VBUS_SYS (power), A4, B4, C4 GND (power), B1 VBUS_POWER (power), B3, C2, C3 VBUS_CON (power)

## TPD4E05U06
designator *
pins: ?1 V+ (power), IO1, IO2, IO3, IO4, V- (power)

## TPD4E110
designator U?  Supplier Part Number 1: 296-38345-1-ND
TVS Diodes for USB 3 Super Speed; Supplier 1: Digi-Key
pins: ?1 V+ (power), IO1, IO2, IO3, IO4, V- (power)

## TPD6E05U06
designator U?  Supplier Part Number 1: 296-39349-6-ND
TVS Diodes for Differential Pairds; 3 pairs; Supplier 1: Digi-Key
footprint R-PUSON-N14 (PSON, 14-Leads, Body 3.50x1.35mm, Pitch 0.50mm, IPC Medium Density)
ibis TPD6E05U06RVZR (Model Description)
pins: 5, 10 V- (power), 8 D3-, 9 D3+, 11 D2-, 12 D2+, 13 D1-, 14 D1+, 15 nc hidden to 1, 2, 3, 4, 6, 7

## TPS7A7100RGWR
designator U?  Supplier Part Number 1: 296-36859-6-ND  Supplier Part Number 2: 595-TPS7A7100RGWR
low-dropout  (LDO)  voltage  regulator  is designed  for applications  seeking  very-low  dropout  capability  (180 mV at 2 A) with an input  voltage  from  1.5 V to 6.5 V.; Supplier 1: Digi-Key; Supplier 2: Mouser
footprint S-PVQFN-N20 (Texas Instruments PQFP-20 max 1mm height)
simulation model TPS7A7200 (TPS7A7200 Model)
simulation model TPS7A7200_ENCRYPTED ($ENCRYPTED_LIB)
pins: 1 OUT (power) "Regulated  output  pin. A 4.7-  μ  F or larger  capacitance  is required  for stability", 2 SNS (in) "Output  voltage  sense  input  pin", 3 FB (in) "Output  voltage  feedback  pin. Connected  to the error  amplifier. TI highly  recommends  connecting  a 220-pF  ceramic  capacitor  from  FB pin to OUT", 4 PG (out) "Active-high  power  good  pin. An open-drain  output  that indicates  when  the output  voltage  reaches  90%  of the target", 5 50mV (in) "Output  voltage  setting  pins.  These  pins must  be connected  to ground  or left floating.  Connecting  these  pins to ground  increases  the output  voltage  by the value  of the pin name;  multiple  pins can be simultaneously  connected  to GND  to select  the desired  output  voltage.  Leave  these  pins floating  (open)  when  not in use", 6 100mV (in) "Output  voltage  setting  pins.  These  pins must  be connected  to ground  or left floating.  Connecting  these  pins to ground  increases  the output  voltage  by the value  of the pin name;  multiple  pins can be simultaneously  connected  to GND  to select  the desired  output  voltage.  Leave  these  pins floating  (open)  when  not in use", 7 200mV (in) "Output  voltage  setting  pins.  These  pins must  be connected  to ground  or left floating.  Connecting  these  pins to ground  increases  the output  voltage  by the value  of the pin name;  multiple  pins can be simultaneously  connected  to GND  to select  the desired  output  voltage.  Leave  these  pins floating  (open)  when  not in use", 8 GND (power) "Ground pin", 9 400mV (in) "Output  voltage  setting  pins.  These  pins must  be connected  to ground  or left floating.  Connecting  these  pins to ground  increases  the output  voltage  by the value  of the pin name;  multiple  pins can be simultaneously  connected  to GND  to select  the desired  output  voltage.  Leave  these  pins floating  (open)  when  not in use", 10 800mV (in) "Output  voltage  setting  pins.  These  pins must  be connected  to ground  or left floating.  Connecting  these  pins to ground  increases  the output  voltage  by the value  of the pin name;  multiple  pins can be simultaneously  connected  to GND  to select  the desired  output  voltage.  Leave  these  pins floating  (open)  when  not in use", 11 1.6V (in) "Output  voltage  setting  pins.  These  pins must  be connected  to ground  or left floating.  Connecting  these  pins to ground  increases  the output  voltage  by the value  of the pin name;  multiple  pins can be simultaneously  connected  to GND  to select  the desired  output  voltage.  Leave  these  pins floating  (open)  when  not in use", 12 NC hidden to 12, 13 SS "Soft-start  pin. Leaving  this pin open  provides  soft start  of the default  setting.  Connecting  an external  capacitor  between  this pin and the ground  enables  the soft-start  function  by forming  an RC-delay  circuit  in combination  with the integrated  resistance  on the  silicon", 14 EN (in) "Enable  pin. Driving  this pin to logic  high enables  the device;  driving  the pin to logic  low disables  the device.", 15 IN (power) "Unregulated  supply  voltage  pin. TI recommends  connecting  an input  capacitor  to this pin", 16 IN (power) "Unregulated  supply  voltage  pin. TI recommends  connecting  an input  capacitor  to this pin", 17 IN (power) "Unregulated  supply  voltage  pin. TI recommends  connecting  an input  capacitor  to this pin", 18 GND (power) "Ground pin", 19 OUT (power) "Regulated  output  pin. A 4.7-  μ  F or larger  capacitance  is required  for stability", 20 OUT (power) "Regulated  output  pin. A 4.7-  μ  F or larger  capacitance  is required  for stability", 21 EP "Exposed Pad"

## TPS549B22RVFT
designator U?  Supplier Part Number 1: 595-TPS549B22RVFT  Supplier Part Number 2: 296-47002-1-ND
ompact  single  buck  converter  with  adaptive  on-time,  D-CAP3  mode  control.  It  is  designed  for  high  accuracy,  high  efficiency,  fast transient  response,  ease-of-use,  low  external  component  count  and  space-conscious  power  systems; Supplier 1: Mouser; Supplier 2: Digi-Key
footprint RVF0040A (Texas Instruments LQFN-CLIP - 1.52 mm max height)
simulation model TPS548D21_TRANS ($ENCRYPTED_LIB)
pins: 1 ~{SMB_ALERT} (out) "Alert  output  for the PMBus  interface", 2 PMB_DATA (io) "Data  I/O for the PMBus  interface", 3 PMB_CLK (in) "Clock  input  for the PMBus  interface.", 4 EN_UVLO (in) "Enable  pin that can turn on the DC/DC  switching  converter.  Use also to program  the required  PVIN  UVLO  when  PVIN  and VDD  are connected  together.", 5 BOOT (power) "Supply  rail for high-side  gate  driver  (boot  terminal).  Connect  boot  capacitor  from  this pin to SW  node.  Internally  connected  to BP via bootstrap  PMOS  switch", 6 NC hidden to 6, 7 NC hidden to 7, 8 SW (io) "Output  switching  terminal  of power  converter.  Connect  the pins to the output  inductor.", 9 SW (io) "Output  switching  terminal  of power  converter.  Connect  the pins to the output  inductor.", 10 SW (io) "Output  switching  terminal  of power  converter.  Connect  the pins to the output  inductor.", 11 SW (io) "Output  switching  terminal  of power  converter.  Connect  the pins to the output  inductor.", 12 SW (io) "Output  switching  terminal  of power  converter.  Connect  the pins to the output  inductor.", 13 PGND (power) "Power  ground  of internal  FETs", 14 PGND (power) "Power  ground  of internal  FETs", 15 PGND (power) "Power  ground  of internal  FETs", 16 PGND (power) "Power  ground  of internal  FETs", 17 PGND (power) "Power  ground  of internal  FETs", 18 PGND (power) "Power  ground  of internal  FETs", 19 PGND (power) "Power  ground  of internal  FETs", 20 PGND (power) "Power  ground  of internal  FETs", 21 PVIN (power) "Power  supply  input  for integrated  power  MOSFET  pair", 22 PVIN (power) "Power  supply  input  for integrated  power  MOSFET  pair", 23 PVIN (power) "Power  supply  input  for integrated  power  MOSFET  pair", 24 PVIN (power) "Power  supply  input  for integrated  power  MOSFET  pair", 25 PVIN (power) "Power  supply  input  for integrated  power  MOSFET  pair", 26 NC hidden to 26, 27 NC hidden to 27, 28 VDD (power) "Controller  power  supply  input", 29 DRGND (power) "Internal  gate  driver  returN", 30 AGND (power) "Ground  pin for internal  analog  circuits.", 31 BP (power) "LDO output", 32 ADDR (in) "Program  device  address  and SKIP  or FCCM  mode.", 33 VSEL (in) "Program  the initial  start-up  and or reference  voltage  without  feedback  resistor  dividers  (from  0.6 V to 1.2 V in 50-mV  increments).", 34 MODE (in) "Mode  selection  pin. Select  the control  mode  (DCAP3  or DCAP),  and soft-start  timing  selection.", 35 PGOOD (oc) "Open  drain  power-good  status  signal", 36 ILIM (io) "Program  overcurrent  limit by connecting  a resistor  to ground.", 37 RESV_TRK, 38 RSN (in) "Inverting  input  of the differential  remote  sense  amplifier.", 39 RSP (in) "Non-inverting  input  of the differential  remote  sense  amplifier", 40 VOSNS (in) "Output  voltage  monitor  input  pin", 41 PAD

## TPS709
designator U?
linear regulator ultra low power 2% accuracy, quiescent current of 1uA; Supplier 1: Mouser; Supplier 2: Digi-Key; Supplier Part Number 1: 595-TPS70918DBVR; Supplier Part Number 2: 296-40919-6-ND
footprint DBV0005A_SOT-23-5 (SOT23, 5-Leads, Body 2.90x2.80mm, Pitch 0.95mm, IPC Medium Density)
pins: 1 IN (power), 2 GND (power), 3 EN (in), 4 hidden to 4, 5 OUT (power)

## TPS2065D
designator U?  Supplier Part Number 1: 296-39354-6-ND
Current Limited Power Distribution Switch; Supplier 1: Digi-Key
footprint DBV0005A | SOT-23-5 (SOT23, 5-Leads, Body 2.90x2.80mm, Pitch 0.95mm, IPC Medium Density)
pins: 1 VOUT (power), 2 GND (power), 3 ~{FLT} (out), 4 EN (in), 5 VIN (power)

## TPS54308DDC
designator U?  Supplier Part Number 1: 595-TPS54308DDCR  Supplier Part Number 2: 296-47880-6-ND
4.5-V  to 28-V  input  voltage  range,  3-A synchronous  buck  converter.; Supplier 1: Mouser; Supplier 2: Digi-Key
footprint R-PDSO-G6 (Texas Instruments DDC PSOT-23-6)
pins: 1 GND (power), 2 SW (out) "Switch  node  connection  between  high-side  NFET  and low-side  NFET", 3 VIN (power) "Input  voltage  supply  pin. The drain  terminal  of high-side  power  NFET.", 4 FB (in) "Converter  feedback  input.  Connect  to output  voltage  with feedback  resistor  divider", 5 EN (in) "This pin is the enable  pin. Float  the EN pin to enable.", 6 BOOT "Supply  input  for the high-side  NFET  gate  drive  circuit.  Connect  a 0.1-  μ  F capacitor  between  BOOT  and  SW pins."

## TPS54424
designator U?  Supplier Part Number 1: 595-TPS54424RNVT  Supplier Part Number 2: 296-47430-6-ND
17-V  (19-V  maximum),  8-A  synchronous  step-down  DC/DC  converter  in a 3.5 mm  × 3.5 mm  HotRod  ™ QFN  package; Supplier 1: Mouser; Supplier 2: Digi-Key
footprint RNV0018B (Texas Instruments VQFN-HR - 1 mm max height)
simulation model TPS54424_TRANS ($ENCRYPTED_LIB)
pins: 1 Boot "Floating  supply  voltage  for high-side  MOSFET  gate  drive  circuit.  Connect  a 0.1-μF ceramic  capacitor  between  BOOT  and SW pins.", 2 VIN (power) "Input  voltage  supply  pin. Power  for the internal  circuit  and the connection  to drain  of high-  side MOSFET.  Connect  both  pins to the input  power  source  with a low impedance  connection.  Connect  both  pins and their  neighboring  PGND  pins.", 3 PGND (power) "Ground  return  for low-side  power  MOSFET  and its drivers.", 4 PGND (power) "Ground  return  for low-side  power  MOSFET  and its drivers.", 5 PGND (power) "Ground  return  for low-side  power  MOSFET  and its drivers.", 6 SW (out) "Switching  node.  Connected  to the source  of the high-side  MOSFET  and drain  of the low-side  MOSFET.", 7 SW (out) "Switching  node.  Connected  to the source  of the high-side  MOSFET  and drain  of the low-side  MOSFET.", 8 PGND (power) "Ground  return  for low-side  power  MOSFET  and its drivers.", 9 PGND (power) "Ground  return  for low-side  power  MOSFET  and its drivers.", 10 PGND (power) "Ground  return  for low-side  power  MOSFET  and its drivers.", 11 VIN (power) "Input  voltage  supply  pin. Power  for the internal  circuit  and the connection  to drain  of high-  side MOSFET.  Connect  both  pins to the input  power  source  with a low impedance  connection.  Connect  both  pins and their  neighboring  PGND  pins.", 12 AGND (power) "Ground  of internal  analog  circuitry.  AGND  must  be connected  to the PGND  plane", 13 RT/CLK (in) "Switching  frequency  setting  pin. In RT mode,  an external  timing  resistor  adjusts  the switching  frequency.  In CLK  mode,  the device  synchronizes  to an external  clock  input  to this pin.", 14 FB (in) "Converter  feedback  input.  Connect  to the output  voltage  with a resistor  divider.", 15 COMP (in) "Error  amplifier  output  and input  to the PWM  modulator.  Connect  loop compensation  to this  pin.", 16 SS/TRK (in) "Soft-start  and tracking  pin. Connecting  an external  capacitor  sets the soft-start  time.  This pin  can also be used  for tracking  and sequencing", 17 EN (in) "Enable  pin. Float  or pull high to enable  the device.  Connect  a resistor  divider  to this pin to  implement  adjustable  under  voltage  lockout  and hysteresis.", 18 PGOOD (out) "Open-drain  power  good  indicator.  It is asserted  low if output  voltage  is outside  if the PGOOD  thresholds,  VIN is low, EN is low, device  is in thermal  shutdown  or device  is in soft-start."

## TPS54824
designator U?  Supplier Part Number 1: 595-TPS54824RNVR  Supplier Part Number 2: 296-48311-6-ND
17-V  (19-V  maximum),  8-A  synchronous  step-down  DC/DC  converter  in a 3.5 mm  × 3.5 mm  HotRod  ™ QFN  package; Supplier 1: Mouser; Supplier 2: Digi-Key
footprint RNV0018B (Texas Instruments VQFN-HR - 1 mm max height)
simulation model TPS54824_AVG ($ENCRYPTED_LIB)
simulation model TPS54824_TRANS (TPS54824)
pins: 1 Boot "Floating  supply  voltage  for high-side  MOSFET  gate  drive  circuit.  Connect  a 0.1-μF ceramic  capacitor  between  BOOT  and SW pins.", 2 VIN (power) "Input  voltage  supply  pin. Power  for the internal  circuit  and the connection  to drain  of high-  side MOSFET.  Connect  both  pins to the input  power  source  with a low impedance  connection.  Connect  both  pins and their  neighboring  PGND  pins.", 3 PGND (power) "Ground  return  for low-side  power  MOSFET  and its drivers.", 4 PGND (power) "Ground  return  for low-side  power  MOSFET  and its drivers.", 5 PGND (power) "Ground  return  for low-side  power  MOSFET  and its drivers.", 6 SW (out) "Switching  node.  Connected  to the source  of the high-side  MOSFET  and drain  of the low-side  MOSFET.", 7 SW (out) "Switching  node.  Connected  to the source  of the high-side  MOSFET  and drain  of the low-side  MOSFET.", 8 PGND (power) "Ground  return  for low-side  power  MOSFET  and its drivers.", 9 PGND (power) "Ground  return  for low-side  power  MOSFET  and its drivers.", 10 PGND (power) "Ground  return  for low-side  power  MOSFET  and its drivers.", 11 VIN (power) "Input  voltage  supply  pin. Power  for the internal  circuit  and the connection  to drain  of high-  side MOSFET.  Connect  both  pins to the input  power  source  with a low impedance  connection.  Connect  both  pins and their  neighboring  PGND  pins.", 12 AGND (power) "Ground  of internal  analog  circuitry.  AGND  must  be connected  to the PGND  plane", 13 RT/CLK (in) "Switching  frequency  setting  pin. In RT mode,  an external  timing  resistor  adjusts  the switching  frequency.  In CLK  mode,  the device  synchronizes  to an external  clock  input  to this pin.", 14 FB (in) "Converter  feedback  input.  Connect  to the output  voltage  with a resistor  divider.", 15 COMP (in) "Error  amplifier  output  and input  to the PWM  modulator.  Connect  loop compensation  to this  pin.", 16 SS/TRK (in) "Soft-start  and tracking  pin. Connecting  an external  capacitor  sets the soft-start  time.  This pin  can also be used  for tracking  and sequencing", 17 EN (in) "Enable  pin. Float  or pull high to enable  the device.  Connect  a resistor  divider  to this pin to  implement  adjustable  under  voltage  lockout  and hysteresis.", 18 PGOOD (out) "Open-drain  power  good  indicator.  It is asserted  low if output  voltage  is outside  if the PGOOD  thresholds,  VIN is low, EN is low, device  is in thermal  shutdown  or device  is in soft-start."

## TPS74301RGW
designator U?  Supplier Part Number 1: 595-TPS74301RGWT  Supplier Part Number 2: 296-19892-6-ND
Low dropout linear regulator with tracking. 1% accuracy 1.5A output 0.9V to 3.6V; Supplier 1: Mouser; Supplier 2: Digi-Key
footprint S-PVQFN-N20 (Texas Instruments PQFP-20 max 1mm height)
simulation model TPS74301_TRANS ($)
simulation model TPS74301_TRANS_ENCRYPTED ($ENCRYPTED_LIB)
pins: 1 OUT (power) "Regulated  output  voltage.  No  capacitor  is required  on  this  pin  for  stability.", 2 NC hidden to 2, 3 NC hidden to 3, 4 NC hidden to 4, 5 IN (power) "Unregulated  input  to  the  device.", 6 IN (power) "Unregulated  input  to  the  device.", 7 IN (power) "Unregulated  input  to  the  device.", 8 IN (power) "Unregulated  input  to  the  device.", 9 PG (oc) "Power-Good  (PG)  is an  open-drain,  active-high  output  that  indicates  the  status  of  V  OUT  . When  V  OUT  exceeds  the  PG  trip  threshold,  the  PG  pin  goes  into  a  high-impedance  state.", 10 BIAS (in) "Bias  input  voltage  for  error  amplifier,  reference,  and  internal  control  circuits.", 11 EN (in) "Active high enable", 12 GND, 13 nc hidden to 13, 14 nc hidden to 14, 15 TRACK (in) "Tracking  pin.  Connect  this  pin  to  the  center  tap  of  a resistor  divider  off  of  an external  supply  to  program  the  device  to  track  an  external  supply", 16 FB (in) "This  pin  is the  feedback  connection  to  the  center  tap  of  an  external  resistor divider  network  that  sets  the  output  voltage.  This  pin  must  not  be  left  floating.", 17 hidden to NC, 18 OUT (power) "Regulated  output  voltage.  No  capacitor  is required  on  this  pin  for  stability.", 19 OUT (power) "Regulated  output  voltage.  No  capacitor  is required  on  this  pin  for  stability.", 20 OUT (power) "Regulated  output  voltage.  No  capacitor  is required  on  this  pin  for  stability.", 21 PAD (power)

## TPS561201DD
designator U?  Supplier Part Number 1: 595-TPS561201DDCR  Supplier Part Number 2: 296-46928-6-ND
The TPS561201  and TPS561208  are simple,  easy-to-  use,  1-A synchronous  step-down  converters  in SOT-  23 package.; Supplier 1: Mouser; Supplier 2: Digi-Key
footprint R-PDSO-G6 (Texas Instruments DDC PSOT-23-6)
simulation model TPS561201_TRANS ($ENCRYPTED_LIB)
pins: 1 GND (power) "Ground  pin Source  terminal  of low-side  power  NFET  as well as the ground  terminal  for controller  circuit.  Connect  sensitive  VFB  to this GND  at a single  point", 2 SW (out) "Switch  node  connection  between  high-side  NFET  and low-side  NFET", 3 VIN (power) "Input  voltage  supply  pin. The drain  terminal  of high-side  power  NFET.", 4 VFB (in) "Converter  feedback  input.  Connect  to output  voltage  with feedback  resistor  divider.", 5 EN (in) "Enable  input  control.  Active  high and must  be pulled  up to enable  the device.", 6 VBST (power) "Supply  input  for the high-side  NFET  gate  drive  circuit.  Connect  0.1-μF capacitor  between  VBST  and SW pins."

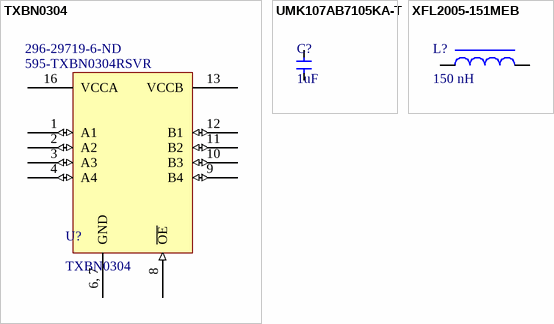
[diagram p3: symbols TXBN0304 to XFL2005-151MEB]

## TXBN0304
designator U?  Supplier Part Number 1: 595-TXBN0304RSVR  Supplier Part Number 2: 296-29719-6-ND
4 channel logic level translator; Supplier 1: Mouser; Supplier 2: Digi-Key
footprint R-PUQFN-N16 (Texas Instruments QFP-16)
ibis TXB0304RSV_PW (Model Description)
pins: 1 A1 (io), 2 A2 (io), 3 A3 (io), 4 A4 (io), 5, 14, 15 NC hidden to 5, 14, 15, 6, 7 GND (power), 8 ~{OE} (in), 9 B4 (io), 10 B3 (io), 11 B2 (io), 12 B1 (io), 13 VCCB (power), 16 VCCA (power)

## UMK107AB7105KA-T
designator C?, comment 1uF
1uF Capacitor 0603 package (in); ESR: 0.03 @ 1MHz; ESL: 318.310169 pH; Value: 1uF; Supplier 1: Digi-Key; Supplier Part Number 1: 587-3247-6-ND
footprint C0603IN_C1608MM
simulation model UMK107AB7105_A-T (UMK107AB7105_A-T     SPICE MODEL  ( General Type ))
pins: 1 22, 2 21

## XFL2005-151MEB
designator L?, comment 150 nH
ESR typical: 85 mOhms; ESR max: 98 mOhms; Self Resonant Frequency: 590 MHz; Isat 10% drop: 1.05A; Isat 20% drop: 1.55A; Isat 30% drop: 1.90A; Irms 20C rise: 1.25A; Irms 40C rise: 1.60A; Value: 150 nH; Supplier 1: Mouser; Supplier Part Number 1: 994-XFL2005-151MEB
footprint XFL2005 (XFL2005 series inductors by coilcraft)
pins: 1, 2 1